# Altium schematic symbol library REG_3.3V_SOT_25.SchLib: 1 symbol
Pins are listed as number, name and electrical type; pins without a type are passive.

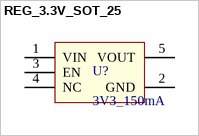
[diagram p0: symbol REG_3.3V_SOT_25]

## REG_3.3V_SOT_25
designator U?, comment 3V3_150mA
Linear Voltage Regulator IC Positive Fixed 1 Output 150mA SOT-25; Supplier 1: Digi-Key; Supplier Part Number 1: AP7354-33W5-7DICT-ND
footprint REG_3.3V_SOT_23
pins: 1 VIN, 2 GND, 3 EN, 4 NC, 5 VOUT